# Altium schematic symbol library USB2422-IMJ.SchLib: 1 symbol
Pins are listed as number, name and electrical type; pins without a type are passive.

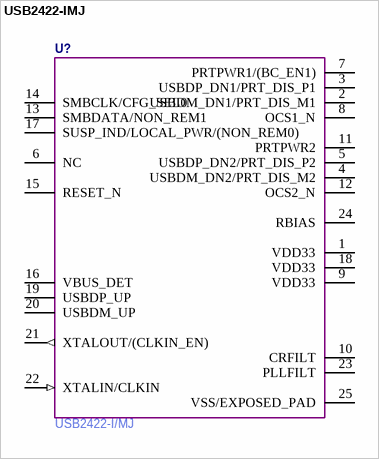
[diagram p0: symbol USB2422-IMJ]

## USB2422-IMJ
designator U?, comment USB2422-I/MJ
Manufacturer Part Number: USB2422-I/MJ
pins: 1 VDD33, 2 USBDM_DN1/PRT_DIS_M1, 3 USBDP_DN1/PRT_DIS_P1, 4 USBDM_DN2/PRT_DIS_M2, 5 USBDP_DN2/PRT_DIS_P2, 6 NC, 7 PRTPWR1/(BC_EN1), 8 OCS1_N, 9 VDD33, 10 CRFILT, 11 PRTPWR2, 12 OCS2_N, 13 SMBDATA/NON_REM1, 14 SMBCLK/CFG_SEL0, 15 RESET_N, 16 VBUS_DET, 17 SUSP_IND/LOCAL_PWR/(NON_REM0), 18 VDD33, 19 USBDP_UP, 20 USBDM_UP, 21 XTALOUT/(CLKIN_EN) (out), 22 XTALIN/CLKIN (in), 23 PLLFILT, 24 RBIAS, 25 VSS/EXPOSED_PAD